# Altium footprint library CHXXX.pcblib: 155 footprints (part 6 of 10)
Each footprint in its own frame and in the unit in brackets; x right, y up, seen from the top. Pads: shape width x height; smd on the part's side, far side on the other; paste and mask are expansions set on the pad; w line width, h text height; cw(c..) or ccw(c..) is an arc to the next point about the centre after c.
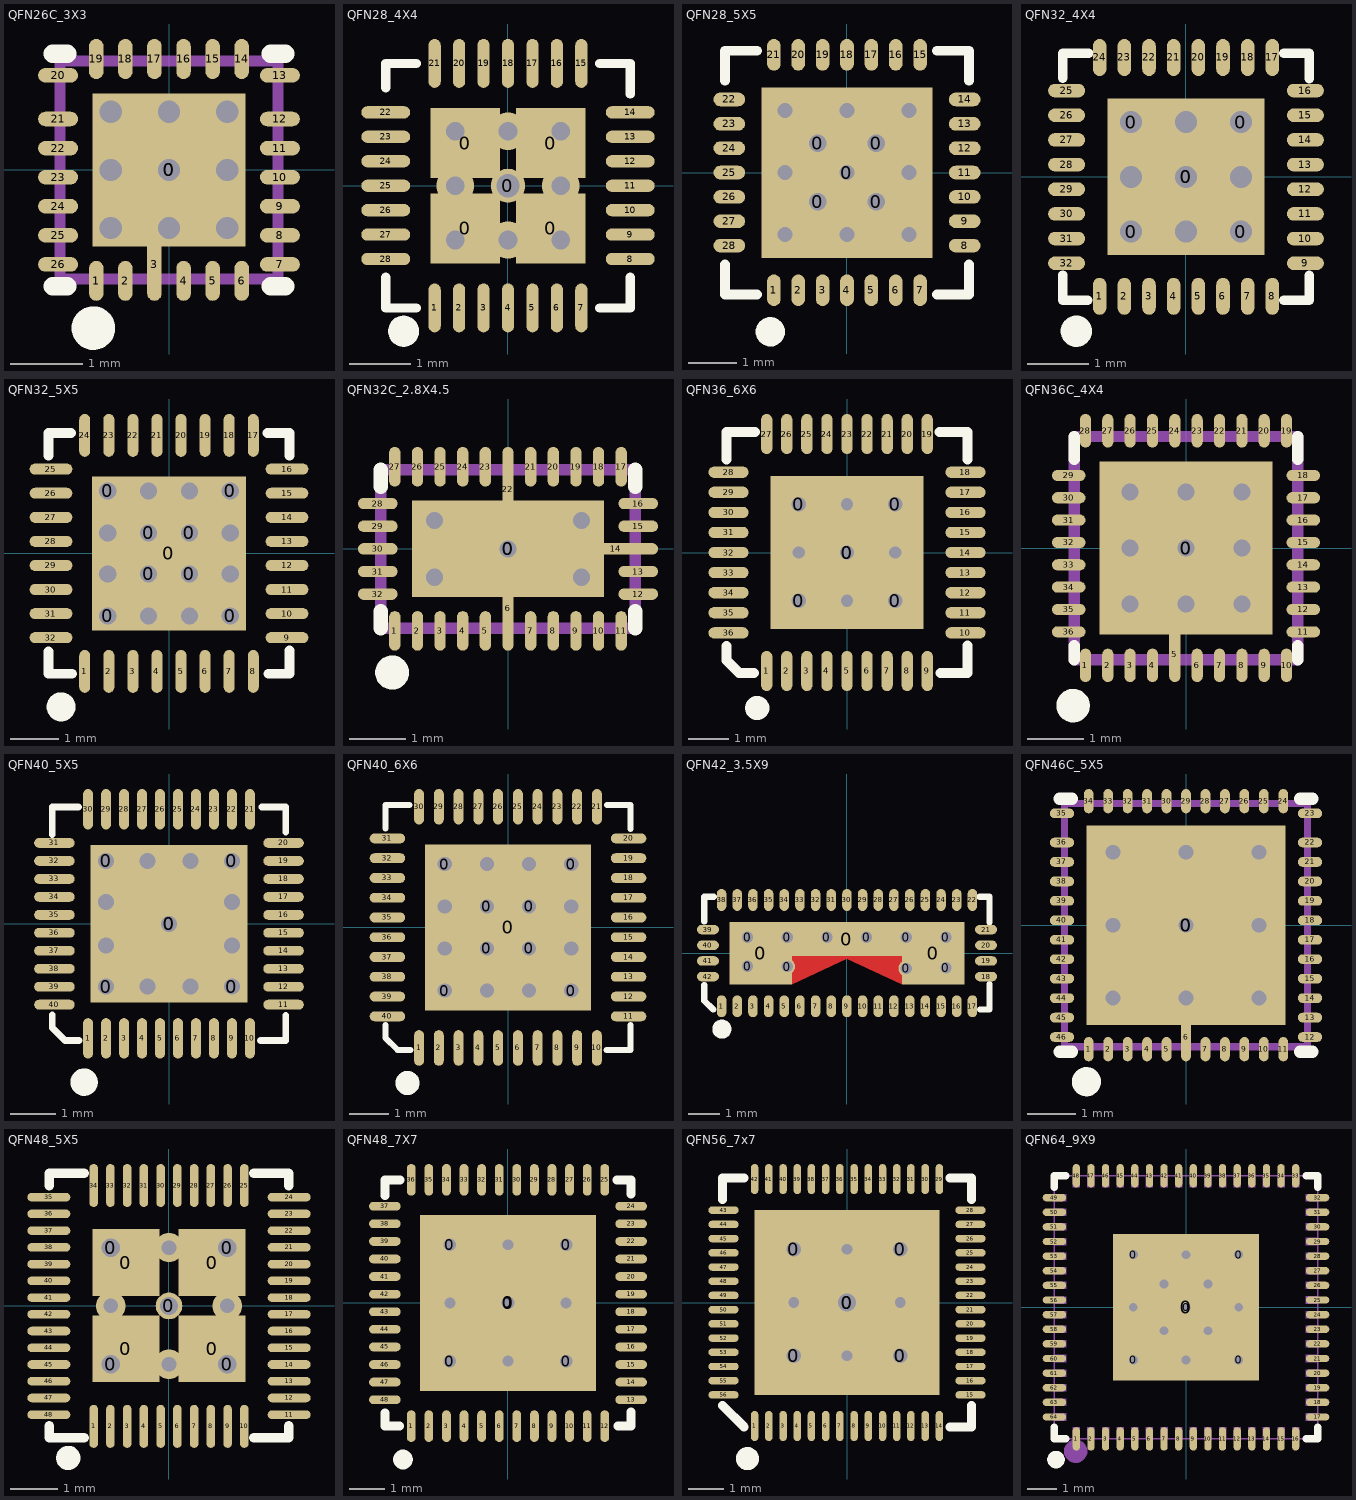
[diagram p5: the footprints below, top view; thin cyan lines are the x and y axes]

## QFN26C_3X3 [mm]
pads (28):
  rect 2.1x2.1 smd mask+0.051: 0(0,0)
  round 0.6 hole 0.3 mask+0.051: 0(0,0)
  oval 0.2x0.55 smd mask+0.051: 1(-1,-1.525) 2(-0.6,-1.525) 4(0.2,-1.525) 5(0.6,-1.525) 6(1,-1.525) 14(1,1.525) 15(0.6,1.525) 16(0.2,1.525) 17(-0.2,1.525) 18(-0.6,1.525) 19(-1,1.525)
  oval 0.2x1 smd mask+0.051: 3(-0.2,-1.3)
  oval 0.55x0.2 smd mask+0.051: 7(1.525,-1.3) 8(1.525,-0.9) 9(1.525,-0.5) 10(1.525,-0.1) 11(1.525,0.3) 12(1.525,0.7) 13(1.525,1.3) 20(-1.525,1.3) 21(-1.525,0.7) 22(-1.525,0.3) 23(-1.525,-0.1) 24(-1.525,-0.5) 25(-1.525,-0.9) 26(-1.525,-1.3)
via -0.8,0 diameter 0.508 hole 0.305
via -0.8,-0.8 diameter 0.508 hole 0.305
via 0,-0.8 diameter 0.508 hole 0.305
via 0.8,-0.8 diameter 0.508 hole 0.305
via 0.8,0 diameter 0.508 hole 0.305
via 0.8,0.8 diameter 0.508 hole 0.305
via 0,0.8 diameter 0.508 hole 0.305
via -0.8,0.8 diameter 0.508 hole 0.305
TopOverlay:
  circle w0.3: c-1.04,-2.175 r0.15
  lines w0.254: -1.6,-1.6 -1.4,-1.6 ; -1.6,1.6 -1.4,1.6 ; 1.4,-1.6 1.6,-1.6 ; 1.4,1.6 1.6,1.6
Mechanical15:
  lines w0.15: -1.5,-1.5 1.5,-1.5 1.5,1.5 -1.5,1.5 -1.5,-1.5

## QFN28_4X4 [mm]
pads (33):
  rect 1.143x1.143 smd mask+0: 0(-0.699,-0.699) 0(-0.699,0.698) 0(0.699,-0.699) 0(0.699,0.698)
  round 0.559 hole 0.381 mask+0.051: 0(0,0)
  oval 0.2x0.8 smd mask+0.051: 1(-1.2,-2) 2(-0.8,-2) 3(-0.4,-2) 4(0,-2) 5(0.4,-2) 6(0.8,-2) 7(1.2,-2) 15(1.2,2) 16(0.8,2) 17(0.4,2) 18(0,2) 19(-0.4,2) 20(-0.8,2) 21(-1.2,2)
  oval 0.8x0.2 smd mask+0.051: 8(2,-1.2) 9(2,-0.8) 10(2,-0.4) 11(2,0) 12(2,0.4) 13(2,0.8) 14(2,1.2) 22(-2,1.2) 23(-2,0.8) 24(-2,0.4) 25(-2,0) 26(-2,-0.4) 27(-2,-0.8) 28(-2,-1.2)
via -0.864,-0.889 diameter 0.61 hole 0.305
via 0.864,-0.889 diameter 0.61 hole 0.305
via 0.864,0.889 diameter 0.61 hole 0.305
via -0.864,0.889 diameter 0.61 hole 0.305
via -0.864,0 diameter 0.61 hole 0.305
via 0.864,0 diameter 0.61 hole 0.305
via 0,-0.889 diameter 0.61 hole 0.305
via 0,0.889 diameter 0.61 hole 0.305
TopOverlay:
  circle w0.254: c-1.708,-2.381 r0.127
  lines w0.152: -2,-1.5 -2,-2 -1.5,-2 ; -2,1.6 -2,2 -1.5,2 ; 1.5,-2 2,-2 2,-1.5 ; 1.5,2 2,2 2,1.5

## QFN28_5X5 [mm]
pads (33):
  round 0.508 hole 0.356: 0(-0.6,-0.6) 0(-0.6,0.6) 0(0.6,-0.6) 0(0.6,0.6)
  rect 3.5x3.5 smd mask+0.051: 0(0,0)
  oval 0.28x0.65 smd mask+0.051: 1(-1.5,-2.416) 2(-1,-2.416) 3(-0.5,-2.416) 4(0,-2.416) 5(0.5,-2.416) 6(1,-2.416) 7(1.5,-2.416) 15(1.5,2.416) 16(1,2.416) 17(0.5,2.416) 18(0,2.416) 19(-0.5,2.416) 20(-1,2.416) 21(-1.5,2.416)
  oval 0.65x0.28 smd mask+0.051: 8(2.416,-1.5) 9(2.416,-1) 10(2.416,-0.5) 11(2.416,0) 12(2.416,0.5) 13(2.416,1) 14(2.416,1.5) 22(-2.416,1.5) 23(-2.416,1) 24(-2.416,0.5) 25(-2.416,0) 26(-2.416,-0.5) 27(-2.416,-1) 28(-2.416,-1.5)
via 0,1.27 diameter 0.61 hole 0.305
via 1.27,1.27 diameter 0.61 hole 0.305
via 1.27,0 diameter 0.61 hole 0.305
via 1.27,-1.27 diameter 0.61 hole 0.305
via 0,-1.27 diameter 0.61 hole 0.305
via -1.27,-1.27 diameter 0.61 hole 0.305
via -1.27,0 diameter 0.61 hole 0.305
via -1.27,1.27 diameter 0.61 hole 0.305
via 0,0 diameter 0.61 hole 0.305
TopOverlay:
  circle w0.305: c-1.573,-3.268 r0.148
  lines w0.203: -2.5,-1.885 -2.5,-2.5 -1.85,-2.5 ; -2.5,1.885 -2.5,2.5 -1.85,2.5 ; 1.85,-2.5 2.5,-2.5 2.5,-1.885 ; 1.85,2.5 2.5,2.5 2.5,1.885

## QFN32_4X4 [mm]
pads (38):
  round 0.508 hole 0.356: 0(-0.889,-0.887) 0(-0.889,0.887) 0(0,0) 0(0.889,-0.887) 0(0.889,0.887)
  rect 2.54x2.54 smd mask+0.051: 0(0,0)
  oval 0.22x0.6 smd mask+0.051: 1(-1.4,-1.936) 2(-1,-1.936) 3(-0.6,-1.936) 4(-0.2,-1.936) 5(0.2,-1.936) 6(0.6,-1.936) 7(1,-1.936) 8(1.4,-1.936) 17(1.4,1.936) 18(1,1.936) 19(0.6,1.936) 20(0.2,1.936) 21(-0.2,1.936) 22(-0.6,1.936) 23(-1,1.936) 24(-1.4,1.936)
  oval 0.6x0.22 smd mask+0.051: 9(1.936,-1.4) 10(1.936,-1) 11(1.936,-0.6) 12(1.936,-0.2) 13(1.936,0.2) 14(1.936,0.6) 15(1.936,1) 16(1.936,1.4) 25(-1.936,1.4) 26(-1.936,1) 27(-1.936,0.6) 28(-1.936,0.2) 29(-1.936,-0.2) 30(-1.936,-0.6) 31(-1.936,-1) 32(-1.936,-1.4)
via 0.889,0 diameter 0.508 hole 0.356
via 0,-0.887 diameter 0.508 hole 0.356
via -0.889,0 diameter 0.508 hole 0.356
via 0,0.887 diameter 0.508 hole 0.356
TopOverlay:
  circle w0.254: c-1.78,-2.502 r0.127
  lines w0.152: -2.001,-1.591 -2.001,-1.998 -1.595,-1.998 ; -2.001,1.602 -2.001,2.002 -1.574,2.002 ; 1.583,2.002 1.999,2.002 1.999,1.59 ; 1.585,-1.998 1.999,-1.998 1.999,-1.593

## QFN32_5X5 [mil]
pads (41):
  round 20 hole 14: 0(-50.12,-51.11) 0(-50.12,51.11) 0(-16.71,-16.7) 0(-16.71,16.7) 0(16.71,-16.7) 0(16.71,16.7) 0(50.12,-51.11) 0(50.12,51.11)
  rect 125.98x125.98 smd mask+2: 0(0,0)
  oval 9x35 smd mask+2: 1(-68.9,-96.49) 2(-49.21,-96.49) 3(-29.53,-96.49) 4(-9.84,-96.49) 5(9.84,-96.49) 6(29.53,-96.49) 7(49.21,-96.49) 8(68.9,-96.49) 17(68.9,96.49) 18(49.21,96.49) 19(29.53,96.49) 20(9.84,96.49) 21(-9.84,96.49) 22(-29.53,96.49) 23(-49.21,96.49) 24(-68.9,96.49)
  oval 35x9 smd mask+2: 9(96.49,-68.9) 10(96.49,-49.21) 11(96.49,-29.53) 12(96.49,-9.84) 13(96.49,9.84) 14(96.49,29.53) 15(96.49,49.21) 16(96.49,68.9) 25(-96.49,68.9) 26(-96.49,49.21) 27(-96.49,29.53) 28(-96.49,9.84) 29(-96.49,-9.84) 30(-96.49,-29.53) 31(-96.49,-49.21) 32(-96.49,-68.9)
via -16.71,51.11 diameter 20 hole 14
via 16.71,51.11 diameter 20 hole 14
via 50.12,16.7 diameter 20 hole 14
via 50.12,-16.7 diameter 20 hole 14
via 16.71,-51.11 diameter 20 hole 14
via -16.71,-51.11 diameter 20 hole 14
via -50.12,-16.7 diameter 20 hole 14
via -50.12,16.7 diameter 20 hole 14
TopOverlay:
  circle w12: c-88.22,-125.47 r5.84
  lines w8: -98.43,-80.19 -98.43,-98.43 -79.38,-98.43 ; -98.43,79.88 -98.43,98.43 -80.12,98.43 ; 80.43,98.43 98.42,98.43 98.42,79.79 ; 81.23,-98.43 98.42,-98.43 98.42,-79.42

## QFN32C_2.8X4.5 [mm]
pads (34):
  rect 3.4x1.7 smd mask+0.051: 0(0,0)
  round 0.6 hole 0.3 mask+0.051: 0(0,0)
  oval 0.2x0.7 smd mask+0.051: 1(-2,-1.45) 2(-1.6,-1.45) 3(-1.2,-1.45) 4(-0.8,-1.45) 5(-0.4,-1.45) 7(0.4,-1.45) 8(0.8,-1.45) 9(1.2,-1.45) 10(1.6,-1.45) 11(2,-1.45) 17(2,1.45) 18(1.6,1.45) 19(1.2,1.45) 20(0.8,1.45) 21(0.4,1.45) 23(-0.4,1.45) 24(-0.8,1.45) 25(-1.2,1.45) 26(-1.6,1.45) 27(-2,1.45)
  oval 0.2x1.5 smd mask+0.051: 6(0,-1.05) 22(0,1.05)
  oval 0.7x0.2 smd mask+0.051: 12(2.3,-0.8) 13(2.3,-0.4) 15(2.3,0.4) 16(2.3,0.8) 28(-2.3,0.8) 29(-2.3,0.4) 30(-2.3,0) 31(-2.3,-0.4) 32(-2.3,-0.8)
  oval 1.5x0.2 smd mask+0.051: 14(1.9,0)
via -1.3,0.5 diameter 0.508 hole 0.305
via -1.3,-0.5 diameter 0.508 hole 0.305
via 1.3,-0.5 diameter 0.508 hole 0.305
via 1.3,0.5 diameter 0.508 hole 0.305
TopOverlay:
  circle w0.3: c-2.047,-2.185 r0.15
  lines w0.254: -2.25,-1.4 -2.25,-1.1 ; -2.25,1.1 -2.25,1.4 ; 2.25,-1.4 2.25,-1.1 ; 2.25,1.1 2.25,1.4
Mechanical15:
  lines w0.2: -2.25,-1.4 -2.25,1.4 2.25,1.4 2.25,-1.4 -2.25,-1.4

## QFN36_6X6 [mm]
pads (42):
  round 0.711 hole 0.356: 0(-1.2,-1.2) 0(-1.2,1.2) 0(0,0) 0(1.2,-1.2) 0(1.2,1.2)
  rect 3.8x3.8 smd: 0(0,0)
  oval 0.28x1 smd mask+0.051: 1(-2,-2.95) 2(-1.5,-2.95) 3(-1,-2.95) 4(-0.5,-2.95) 5(0,-2.95) 6(0.5,-2.95) 7(1,-2.95) 8(1.5,-2.95) 9(2,-2.95) 19(2,2.95) 20(1.5,2.95) 21(1,2.95) 22(0.5,2.95) 23(0,2.95) 24(-0.5,2.95) 25(-1,2.95) 26(-1.5,2.95) 27(-2,2.95)
  oval 1x0.28 smd mask+0.051: 10(2.95,-2) 11(2.95,-1.5) 12(2.95,-1) 13(2.95,-0.5) 14(2.95,0) 15(2.95,0.5) 16(2.95,1) 17(2.95,1.5) 18(2.95,2) 28(-2.95,2) 29(-2.95,1.5) 30(-2.95,1) 31(-2.95,0.5) 32(-2.95,0) 33(-2.95,-0.5) 34(-2.95,-1) 35(-2.95,-1.5) 36(-2.95,-2)
via 0,1.2 diameter 0.61 hole 0.305
via -1.2,0 diameter 0.61 hole 0.305
via 0,-1.2 diameter 0.61 hole 0.305
via 1.2,0 diameter 0.61 hole 0.305
TopOverlay:
  circle w0.305: c-2.235,-3.873 r0.148
  lines w0.254: -3,-2.328 -3,-2.684 -2.684,-3 -2.316,-3 ; -3,2.324 -3,3 -2.297,3 ; 2.311,3 3,3 3,2.317 ; 2.33,-3 3,-3 3,-2.315

## QFN36C_4X4 [mm]
pads (38):
  rect 3.1x3.1 smd mask+0.051: 0(0,0)
  round 0.6 hole 0.3 mask+0.051: 0(0,0)
  oval 0.2x0.6 smd mask+0.051: 1(-1.8,-2.1) 2(-1.4,-2.1) 3(-1,-2.1) 4(-0.6,-2.1) 6(0.2,-2.1) 7(0.6,-2.1) 8(1,-2.1) 9(1.4,-2.1) 10(1.8,-2.1) 19(1.8,2.1) 20(1.4,2.1) 21(1,2.1) 22(0.6,2.1) 23(0.2,2.1) 24(-0.2,2.1) 25(-0.6,2.1) 26(-1,2.1) 27(-1.4,2.1) 28(-1.8,2.1)
  oval 0.2x1 smd mask+0.051: 5(-0.2,-1.9)
  oval 0.6x0.2 smd mask+0.051: 11(2.1,-1.5) 12(2.1,-1.1) 13(2.1,-0.7) 14(2.1,-0.3) 15(2.1,0.1) 16(2.1,0.5) 17(2.1,0.9) 18(2.1,1.3) 29(-2.1,1.3) 30(-2.1,0.9) 31(-2.1,0.5) 32(-2.1,0.1) 33(-2.1,-0.3) 34(-2.1,-0.7) 35(-2.1,-1.1) 36(-2.1,-1.5)
via -1,1 diameter 0.508 hole 0.305
via 0,1 diameter 0.508 hole 0.305
via 1,1 diameter 0.508 hole 0.305
via 1,0 diameter 0.508 hole 0.305
via 1,-1 diameter 0.508 hole 0.305
via 0,-1 diameter 0.508 hole 0.305
via -1,-1 diameter 0.508 hole 0.305
via -1,0 diameter 0.508 hole 0.305
TopOverlay:
  circle w0.3: c-2.022,-2.821 r0.15
  lines w0.2: -2,-2 -2,-1.75 ; -2,1.59 -2,2 ; 2,-2 2,-1.75 ; 2,1.59 2,2
Mechanical15:
  lines w0.2: -2,-2 2,-2 2,2 -2,2 -2,-2

## QFN40_5X5 [mm]
pads (46):
  round 0.559 hole 0.356 mask+0.102: 0(-1.4,-1.4) 0(-1.4,1.4) 0(0,0) 0(1.4,-1.4) 0(1.4,1.4)
  rect 3.5x3.5 smd mask+0.051: 0(0,0)
  oval 0.22x0.9 smd mask+0.051: 1(-1.8,-2.55) 2(-1.4,-2.55) 3(-1,-2.55) 4(-0.6,-2.55) 5(-0.2,-2.55) 6(0.2,-2.55) 7(0.6,-2.55) 8(1,-2.55) 9(1.4,-2.55) 10(1.8,-2.55) 21(1.8,2.55) 22(1.4,2.55) 23(1,2.55) 24(0.6,2.55) 25(0.2,2.55) 26(-0.2,2.55) 27(-0.6,2.55) 28(-1,2.55) 29(-1.4,2.55) 30(-1.8,2.55)
  oval 0.9x0.22 smd mask+0.051: 11(2.55,-1.8) 12(2.55,-1.4) 13(2.55,-1) 14(2.55,-0.6) 15(2.55,-0.2) 16(2.55,0.2) 17(2.55,0.6) 18(2.55,1) 19(2.55,1.4) 20(2.55,1.8) 31(-2.55,1.8) 32(-2.55,1.4) 33(-2.55,1) 34(-2.55,0.6) 35(-2.55,0.2) 36(-2.55,-0.2) 37(-2.55,-0.6) 38(-2.55,-1) 39(-2.55,-1.4) 40(-2.55,-1.8)
via -0.483,1.4 diameter 0.61 hole 0.356
via 0.483,1.4 diameter 0.61 hole 0.356
via 1.4,0.483 diameter 0.61 hole 0.356
via 1.4,-0.483 diameter 0.61 hole 0.356
via 0.483,-1.4 diameter 0.61 hole 0.356
via -0.483,-1.4 diameter 0.61 hole 0.356
via -1.4,0.483 diameter 0.61 hole 0.356
via -1.4,-0.483 diameter 0.61 hole 0.356
TopOverlay:
  circle w0.305: c-1.89,-3.524 r0.152
  lines w0.152: -2.6,-2.025 -2.6,-2.311 -2.316,-2.6 -2.004,-2.6 ; -2.6,1.988 -2.6,2.6 -2.011,2.6 ; 2.038,-2.6 2.6,-2.6 2.6,-2.043 ; 2.065,2.6 2.6,2.6 2.6,2.039

## QFN40_6X6 [mm]
pads (49):
  round 0.508 hole 0.356 mask+0.102: 0(-1.6,-1.6) 0(-1.6,1.6) 0(-0.533,-0.533) 0(-0.533,0.533) 0(0.533,-0.533) 0(0.533,0.533) 0(1.6,-1.6) 0(1.6,1.6)
  rect 4.2x4.2 smd mask+0.051: 0(0,0)
  oval 0.25x0.9 smd mask+0.051: 1(-2.25,-3.05) 2(-1.75,-3.05) 3(-1.25,-3.05) 4(-0.75,-3.05) 5(-0.25,-3.05) 6(0.25,-3.05) 7(0.75,-3.05) 8(1.25,-3.05) 9(1.75,-3.05) 10(2.25,-3.05) 21(2.25,3.05) 22(1.75,3.05) 23(1.25,3.05) 24(0.75,3.05) 25(0.25,3.05) 26(-0.25,3.05) 27(-0.75,3.05) 28(-1.25,3.05) 29(-1.75,3.05) 30(-2.25,3.05)
  oval 0.9x0.25 smd mask+0.051: 11(3.05,-2.25) 12(3.05,-1.75) 13(3.05,-1.25) 14(3.05,-0.75) 15(3.05,-0.25) 16(3.05,0.25) 17(3.05,0.75) 18(3.05,1.25) 19(3.05,1.75) 20(3.05,2.25) 31(-3.05,2.25) 32(-3.05,1.75) 33(-3.05,1.25) 34(-3.05,0.75) 35(-3.05,0.25) 36(-3.05,-0.25) 37(-3.05,-0.75) 38(-3.05,-1.25) 39(-3.05,-1.75) 40(-3.05,-2.25)
via -0.533,1.6 diameter 0.508 hole 0.356
via 0.533,1.6 diameter 0.508 hole 0.356
via 1.6,0.533 diameter 0.508 hole 0.356
via 1.6,-0.533 diameter 0.508 hole 0.356
via 0.533,-1.6 diameter 0.508 hole 0.356
via -0.533,-1.6 diameter 0.508 hole 0.356
via -1.6,0.533 diameter 0.508 hole 0.356
via -1.6,-0.533 diameter 0.508 hole 0.356
TopOverlay:
  circle w0.305: c-2.541,-3.936 r0.152
  lines w0.152: -3.1,-2.79 -3.1,-2.794 ; -3.1,-2.466 -3.1,-2.794 ; -3.1,2.501 -3.1,3.1 -2.493,3.1 ; -2.467,-3.1 -2.794,-3.1 -3.1,-2.794 ; 2.491,-3.1 3.1,-3.1 3.1,-2.476 ; 2.502,3.1 3.1,3.1 3.1,2.484

## QFN42_3.5X9 [mm]
pads (55):
  round 0.508 hole 0.356 mask+0: 0(-3.176,-0.419) 0(-3.176,0.504) 0(-1.909,-0.429) 0(-1.909,0.504) 0(-0.642,0.504) 0(0.625,0.504) 0(1.892,-0.49) 0(1.892,0.504) 0(3.159,-0.469) 0(3.159,0.504)
  rect 2x2 smd: 0(-2.75,0) 0(2.75,0)
  rect 7.5x1.1 smd: 0(-0.002,0.45)
  oval 0.3x0.7 smd mask+0.051: 1(-4.002,-1.697) 2(-3.502,-1.697) 3(-3.002,-1.697) 4(-2.502,-1.697) 5(-2.002,-1.697) 6(-1.502,-1.697) 7(-1.002,-1.697) 8(-0.502,-1.697) 9(-0.002,-1.697) 10(0.498,-1.697) 11(0.998,-1.697) 12(1.498,-1.697) 13(2.002,-1.697) 14(2.502,-1.697) 15(3.002,-1.697) 16(3.502,-1.697) 17(4.002,-1.697) 22(4.002,1.697) 23(3.502,1.697) 24(3.002,1.697) 25(2.502,1.697) 26(2.002,1.697) 27(1.498,1.697) 28(0.998,1.697) 29(0.498,1.697) 30(-0.002,1.697) 31(-0.502,1.697) 32(-1.002,1.697) 33(-1.502,1.697) 34(-2.002,1.697) 35(-2.502,1.697) 36(-3.002,1.697) 37(-3.502,1.697) 38(-4.002,1.697)
  oval 0.7x0.3 smd mask+0.051: 18(4.438,-0.75) 19(4.438,-0.25) 20(4.438,0.25) 21(4.438,0.75) 39(-4.438,0.75) 40(-4.438,0.25) 41(-4.438,-0.25) 42(-4.438,-0.75)
TopLayer:
  region: 1.745,-1 1.745,0 -1.75,0 -1.75,-1 -0.002,-0.174
TopOverlay:
  circle w0.305: c-3.994,-2.425 r0.152
  lines w0.203: -4.552,-1.02 -4.552,-1.521 -4.273,-1.8 ; -4.552,1.01 -4.552,1.8 -4.25,1.8 ; 4.23,1.8 4.548,1.8 4.548,0.99 ; 4.25,-1.8 4.548,-1.8 4.548,-1
TopPaste:
  region: -1.75,-1 -0.002,-0.174 1.745,-1 2.356,-1 2.356,0 -2.36,0 -2.36,-1
TopSolder:
  region: -1.648,-1.102 -0.002,-0.323 1.644,-1.102 2.356,-1.102 2.356,0 -2.36,0 -2.36,-1.102

## QFN46C_5X5 [mm]
pads (48):
  rect 4.1x4.1 smd mask+0.051: 0(0,0)
  round 0.508 hole 0.305 mask+0.051: 0(0,0)
  oval 0.2x0.5 smd mask+0.051: 1(-2,-2.55) 2(-1.6,-2.55) 3(-1.2,-2.55) 4(-0.8,-2.55) 5(-0.4,-2.55) 7(0.4,-2.55) 8(0.8,-2.55) 9(1.2,-2.55) 10(1.6,-2.55) 11(2,-2.55) 24(2,2.55) 25(1.6,2.55) 26(1.2,2.55) 27(0.8,2.55) 28(0.4,2.55) 29(0,2.55) 30(-0.4,2.55) 31(-0.8,2.55) 32(-1.2,2.55) 33(-1.6,2.55) 34(-2,2.55)
  oval 0.2x1 smd mask+0.051: 6(0,-2.3)
  oval 0.5x0.2 smd mask+0.051: 12(2.55,-2.3) 13(2.55,-1.9) 14(2.55,-1.5) 15(2.55,-1.1) 16(2.55,-0.7) 17(2.55,-0.3) 18(2.55,0.1) 19(2.55,0.5) 20(2.55,0.9) 21(2.55,1.3) 22(2.55,1.7) 23(2.55,2.3) 35(-2.55,2.3) 36(-2.55,1.7) 37(-2.55,1.3) 38(-2.55,0.9) 39(-2.55,0.5) 40(-2.55,0.1) 41(-2.55,-0.3) 42(-2.55,-0.7) 43(-2.55,-1.1) 44(-2.55,-1.5) 45(-2.55,-1.9) 46(-2.55,-2.3)
via -1.5,0 diameter 0.61 hole 0.305
via -1.5,-1.5 diameter 0.61 hole 0.305
via 0,-1.5 diameter 0.61 hole 0.305
via 1.5,-1.5 diameter 0.61 hole 0.305
via 1.5,0 diameter 0.61 hole 0.305
via 1.5,1.5 diameter 0.61 hole 0.305
via 0,1.5 diameter 0.61 hole 0.305
via -1.5,1.5 diameter 0.61 hole 0.305
TopOverlay:
  circle w0.3: c-2.048,-3.218 r0.15
  lines w0.254: -2.6,-2.6 -2.343,-2.6 ; -2.6,2.6 -2.343,2.6 ; 2.343,-2.6 2.6,-2.6 ; 2.343,2.6 2.6,2.6
Mechanical15:
  lines w0.15: -2.5,-2.5 -2.5,2.5 2.5,2.5 2.5,-2.5 -2.5,-2.5

## QFN48_5X5 [mm]
pads (57):
  round 0.559 hole 0.381 mask+0.102: 0(-1.219,-1.219) 0(-1.219,1.219) 0(0,0) 0(1.219,-1.219) 0(1.219,1.219)
  rect 1.397x1.397 smd mask+0: 0(-0.901,-0.895) 0(-0.901,0.908) 0(0.902,-0.895) 0(0.902,0.908)
  oval 0.18x0.9 smd mask+0.051: 1(-1.575,-2.519) 2(-1.225,-2.519) 3(-0.875,-2.519) 4(-0.525,-2.519) 5(-0.175,-2.519) 6(0.175,-2.519) 7(0.525,-2.519) 8(0.875,-2.519) 9(1.225,-2.519) 10(1.575,-2.519) 25(1.575,2.519) 26(1.225,2.519) 27(0.875,2.519) 28(0.525,2.519) 29(0.175,2.519) 30(-0.175,2.519) 31(-0.525,2.519) 32(-0.875,2.519) 33(-1.225,2.519) 34(-1.575,2.519)
  oval 0.9x0.18 smd mask+0.051: 11(2.514,-2.275) 12(2.514,-1.925) 13(2.514,-1.575) 14(2.514,-1.225) 15(2.514,-0.875) 16(2.514,-0.525) 17(2.514,-0.175) 18(2.514,0.175) 19(2.514,0.525) 20(2.514,0.875) 21(2.514,1.225) 22(2.514,1.575) 23(2.514,1.925) 24(2.514,2.275) 35(-2.514,2.275) 36(-2.514,1.925) 37(-2.514,1.575) 38(-2.514,1.225) 39(-2.514,0.875) 40(-2.514,0.525) 41(-2.514,0.175) 42(-2.514,-0.175) 43(-2.514,-0.525) 44(-2.514,-0.875) 45(-2.514,-1.225) 46(-2.514,-1.575) 47(-2.514,-1.925) 48(-2.514,-2.275)
via 1.219,0 diameter 0.61 hole 0.305
via 0,-1.219 diameter 0.61 hole 0.305
via -1.219,0 diameter 0.61 hole 0.305
via 0,1.219 diameter 0.61 hole 0.305
TopOverlay:
  circle w0.254: c-2.108,-3.179 r0.127
  lines w0.2: -2.509,-2.506 -2.509,-2.76 -1.778,-2.76 ; -2.509,2.519 -2.509,2.772 -1.778,2.772 ; 1.778,-2.76 2.509,-2.76 2.509,-2.506 ; 1.778,2.772 2.509,2.772 2.509,2.519

## QFN48_7X7 [mm]
pads (54):
  round 0.559 hole 0.356 mask+0.102: 0(-1.651,-1.651) 0(-1.651,1.651) 0(0,0) 0(1.651,-1.651) 0(1.651,1.651)
  rect 5x5 smd mask+0.051: 0(0,0)
  oval 0.25x0.9 smd mask+0.051: 1(-2.75,-3.5) 2(-2.25,-3.5) 3(-1.75,-3.5) 4(-1.25,-3.5) 5(-0.75,-3.5) 6(-0.25,-3.5) 7(0.25,-3.5) 8(0.75,-3.5) 9(1.25,-3.5) 10(1.75,-3.5) 11(2.25,-3.5) 12(2.75,-3.5) 25(2.75,3.5) 26(2.25,3.5) 27(1.75,3.5) 28(1.25,3.5) 29(0.75,3.5) 30(0.25,3.5) 31(-0.25,3.5) 32(-0.75,3.5) 33(-1.25,3.5) 34(-1.75,3.5) 35(-2.25,3.5) 36(-2.75,3.5)
  oval 0.9x0.25 smd mask+0.051: 13(3.5,-2.75) 14(3.5,-2.25) 15(3.5,-1.75) 16(3.5,-1.25) 17(3.5,-0.75) 18(3.5,-0.25) 19(3.5,0.25) 20(3.5,0.75) 21(3.5,1.25) 22(3.5,1.75) 23(3.5,2.25) 24(3.5,2.75) 37(-3.5,2.75) 38(-3.5,2.25) 39(-3.5,1.75) 40(-3.5,1.25) 41(-3.5,0.75) 42(-3.5,0.25) 43(-3.5,-0.25) 44(-3.5,-0.75) 45(-3.5,-1.25) 46(-3.5,-1.75) 47(-3.5,-2.25) 48(-3.5,-2.75)
via -1.651,0 diameter 0.61 hole 0.305
via 0,1.651 diameter 0.61 hole 0.305
via 1.651,0 diameter 0.61 hole 0.305
via 0,-1.651 diameter 0.61 hole 0.305
TopOverlay:
  circle w0.305: c-2.986,-4.451 r0.127
  lines w0.254: -3.5,-3.128 -3.5,-3.5 -3.082,-3.5 ; -3.5,3.057 -3.5,3.5 -3.066,3.5 ; 3.099,3.5 3.5,3.5 3.5,3.096 ; 3.126,-3.5 3.5,-3.5 3.5,-3.104

## QFN56_7x7 [mm]
pads (62):
  round 0.762 hole 0.406: 0(-1.5,-1.5) 0(-1.5,1.5) 0(1.5,-1.5) 0(1.5,1.5)
  rect 5.2x5.2 smd mask+0.05: 0(0,0)
  round 0.889 hole 0.508: 0(0,0)
  oval 0.21x0.85 smd mask+0.051: 1(-2.6,-3.475) 2(-2.2,-3.475) 3(-1.8,-3.475) 4(-1.4,-3.475) 5(-1,-3.475) 6(-0.6,-3.475) 7(-0.2,-3.475) 8(0.2,-3.475) 9(0.6,-3.475) 10(1,-3.475) 11(1.4,-3.475) 12(1.8,-3.475) 13(2.2,-3.475) 14(2.6,-3.475) 29(2.6,3.475) 30(2.2,3.475) 31(1.8,3.475) 32(1.4,3.475) 33(1,3.475) 34(0.6,3.475) 35(0.2,3.475) 36(-0.2,3.475) 37(-0.6,3.475) 38(-1,3.475) 39(-1.4,3.475) 40(-1.8,3.475) 41(-2.2,3.475) 42(-2.6,3.475)
  oval 0.85x0.21 smd mask+0.051: 15(3.475,-2.6) 16(3.475,-2.2) 17(3.475,-1.8) 18(3.475,-1.4) 19(3.475,-1) 20(3.475,-0.6) 21(3.475,-0.2) 22(3.475,0.2) 23(3.475,0.6) 24(3.475,1) 25(3.475,1.4) 26(3.475,1.8) 27(3.475,2.2) 28(3.475,2.6) 43(-3.475,2.6) 44(-3.475,2.2) 45(-3.475,1.8) 46(-3.475,1.4) 47(-3.475,1) 48(-3.475,0.6) 49(-3.475,0.2) 50(-3.475,-0.2) 51(-3.475,-0.6) 52(-3.475,-1) 53(-3.475,-1.4) 54(-3.475,-1.8) 55(-3.475,-2.2) 56(-3.475,-2.6)
via -1.5,0 diameter 0.6 hole 0.3
via 0,1.5 diameter 0.6 hole 0.3
via 1.5,0 diameter 0.6 hole 0.3
via 0,-1.5 diameter 0.6 hole 0.3
TopOverlay:
  circle w0.35: c-2.803,-4.395 r0.15
  lines w0.254: -3.5,-2.899 -2.899,-3.5 ; -3.5,2.899 -3.5,3.5 -2.899,3.5 ; 2.899,-3.5 3.5,-3.5 3.5,-2.899 ; 2.899,3.5 3.5,3.5 3.5,2.899

## QFN64_9X9 [mm]
height 9.7
pads (70):
  round 0.508 hole 0.305 mask+0.051: 0(-1.8,-1.8) 0(-1.8,1.8) 0(0,0) 0(1.8,-1.8) 0(1.8,1.8)
  rect 5x5 smd mask+0.051: 0(0,0)
  oval 0.25x0.8 smd mask+0.051: 1(-3.75,-4.5) 2(-3.25,-4.5) 3(-2.75,-4.5) 4(-2.25,-4.5) 5(-1.75,-4.5) 6(-1.25,-4.5) 7(-0.75,-4.5) 8(-0.25,-4.5) 9(0.25,-4.5) 10(0.75,-4.5) 11(1.25,-4.5) 12(1.75,-4.5) 13(2.25,-4.5) 14(2.75,-4.5) 15(3.25,-4.5) 16(3.75,-4.5) 33(3.75,4.5) 34(3.25,4.5) 35(2.75,4.5) 36(2.25,4.5) 37(1.75,4.5) 38(1.25,4.5) 39(0.75,4.5) 40(0.25,4.5) 41(-0.25,4.5) 42(-0.75,4.5) 43(-1.25,4.5) 44(-1.75,4.5) 45(-2.25,4.5) 46(-2.75,4.5) 47(-3.25,4.5) 48(-3.75,4.5)
  oval 0.8x0.25 smd mask+0.051: 17(4.5,-3.75) 18(4.5,-3.25) 19(4.5,-2.75) 20(4.5,-2.25) 21(4.5,-1.75) 22(4.5,-1.25) 23(4.5,-0.75) 24(4.5,-0.25) 25(4.5,0.25) 26(4.5,0.75) 27(4.5,1.25) 28(4.5,1.75) 29(4.5,2.25) 30(4.5,2.75) 31(4.5,3.25) 32(4.5,3.75) 49(-4.5,3.75) 50(-4.5,3.25) 51(-4.5,2.75) 52(-4.5,2.25) 53(-4.5,1.75) 54(-4.5,1.25) 55(-4.5,0.75) 56(-4.5,0.25) 57(-4.5,-0.25) 58(-4.5,-0.75) 59(-4.5,-1.25) 60(-4.5,-1.75) 61(-4.5,-2.25) 62(-4.5,-2.75) 63(-4.5,-3.25) 64(-4.5,-3.75)
via 0,-1.8 diameter 0.6 hole 0.3
via 1.8,0 diameter 0.6 hole 0.3
via 0,1.8 diameter 0.6 hole 0.3
via -1.8,0 diameter 0.6 hole 0.3
via -0.75,-0.8 diameter 0.6 hole 0.3
via 0.75,-0.8 diameter 0.6 hole 0.3
via 0.75,0.8 diameter 0.6 hole 0.3
via -0.75,0.8 diameter 0.6 hole 0.3
TopOverlay:
  lines w0.254: -4.5,-4.106 -4.5,-4.5 -4.106,-4.5 ; -4.5,4.106 -4.5,4.5 -4.106,4.5 ; 4.106,-4.5 4.5,-4.5 4.5,-4.106 ; 4.106,4.5 4.5,4.5 4.5,4.106
  lines w0.3: -4.447,-5.057 ccw(c-4.445,-5.207) -4.443,-5.057
Mechanical6:
  circle w0.4: c-3.77,-4.92 r0.2
Mechanical15:
  drawing of 69 lines, arcs and shapes, not listed